# Altium footprint library INF-PG-TSSOP-38N.PcbLib: 1 footprints
Each footprint in its own frame and in the unit in brackets; x right, y up, seen from the top. Pads: shape width x height; smd on the part's side, far side on the other; paste and mask are expansions set on the pad; w line width, h text height; cw(c..) or ccw(c..) is an arc to the next point about the centre after c.
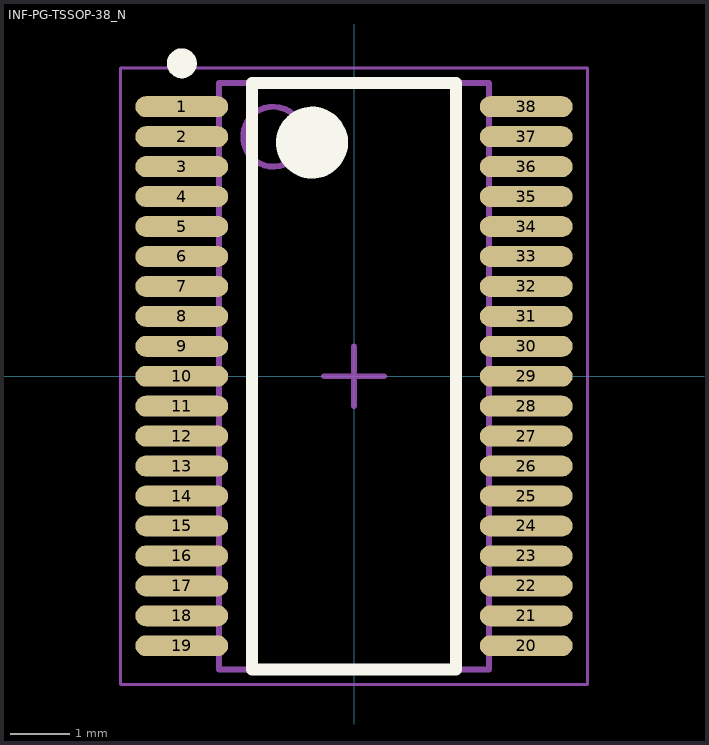
[diagram p0: the footprint, top view; thin cyan lines are the x and y axes]

## INF-PG-TSSOP-38_N [mm] "SOP, 38-Leads, Body 9.7x4.4 mm, Pitch 0.5 mm, IPC Medium Density"
height 1.2
pads (38):
  oval 1.55x0.35 smd: 1(-2.875,4.5) 2(-2.875,4) 3(-2.875,3.5) 4(-2.875,3) 5(-2.875,2.5) 6(-2.875,2) 7(-2.875,1.5) 8(-2.875,1) 9(-2.875,0.5) 10(-2.875,0) 11(-2.875,-0.5) 12(-2.875,-1) 13(-2.875,-1.5) 14(-2.875,-2) 15(-2.875,-2.5) 16(-2.875,-3) 17(-2.875,-3.5) 18(-2.875,-4) 19(-2.875,-4.5) 20(2.875,-4.5) 21(2.875,-4) 22(2.875,-3.5) 23(2.875,-3) 24(2.875,-2.5) 25(2.875,-2) 26(2.875,-1.5) 27(2.875,-1) 28(2.875,-0.5) 29(2.875,0) 30(2.875,0.5) 31(2.875,1) 32(2.875,1.5) 33(2.875,2) 34(2.875,2.5) 35(2.875,3) 36(2.875,3.5) 37(2.875,4) 38(2.875,4.5)
Top Overlay:
  circle w0.6: c-0.7,3.9 r0.3
  circle w0.25: c-2.875,5.225 r0.125
  lines w0.2: -1.7,-4.9 1.7,-4.9 1.7,4.9 -1.7,4.9 -1.7,-4.9
Mechanical 13:
  circle w0.1: c-1.35,4 r0.5
  lines w0.1: -2.25,-4.9 2.25,-4.9 2.25,4.9 -2.25,4.9 -2.25,-4.9
Mechanical 15:
  lines w0.05: -3.9,-5.15 3.9,-5.15 3.9,5.15 -3.9,5.15 -3.9,-5.15
  lines w0.1: -0.5,0 0.5,0 ; 0,-0.5 0,0.5
3D body: height 1.2, standoff 0.05, extent -2.25,-4.9 2.25,4.9